# Altium integrated library Linear Technology Power Management PMIC Multifunction.IntLib: 360 symbols (part 14 of 42)
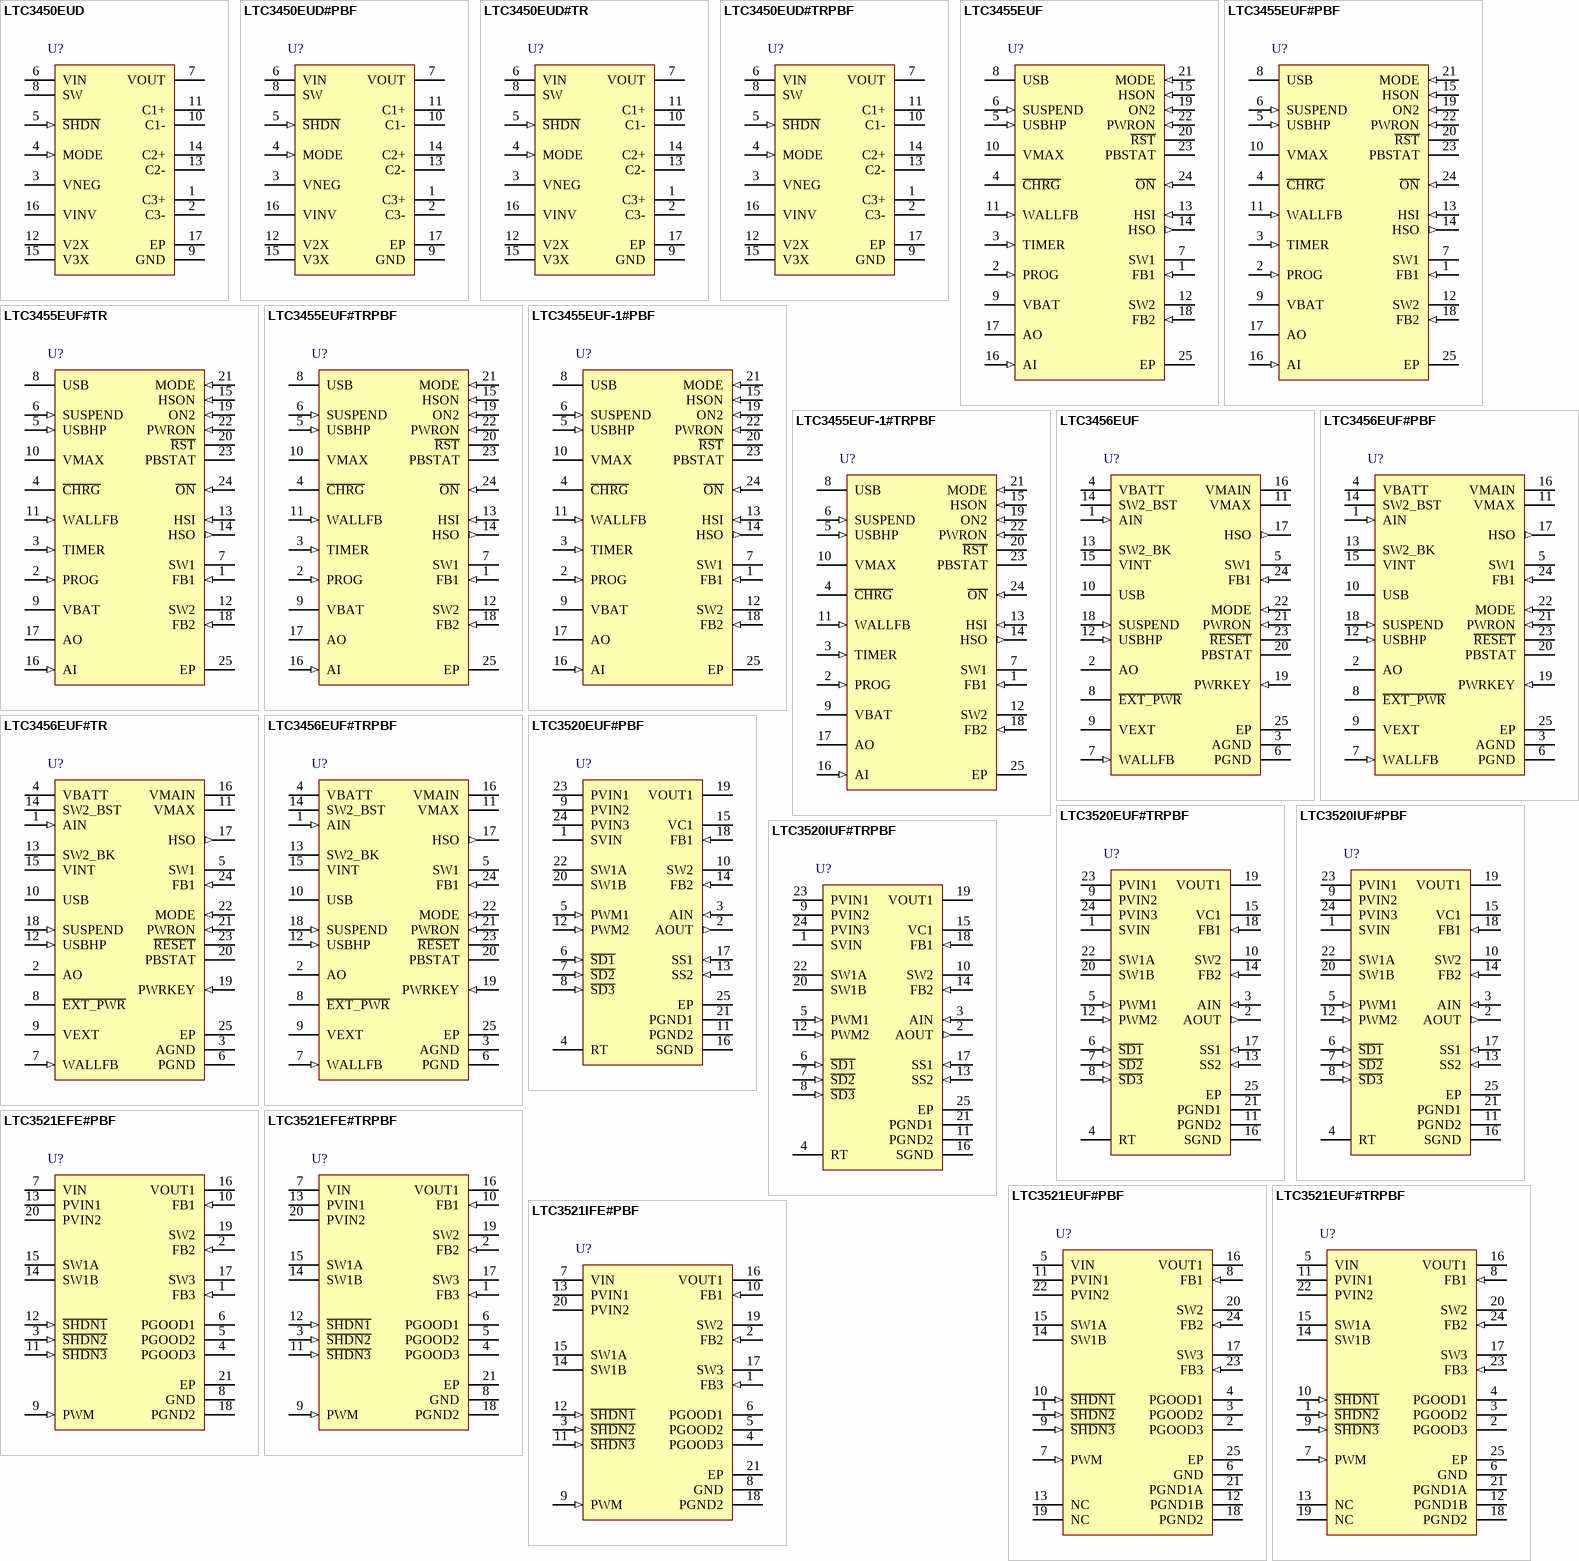
[diagram p31: symbols LTC3450EUD to LTC3521IFE#PBF]

## LTC3455EUF#PBF
designator U?
Dual DC/DC Converter with USB Power Manager and Li-Ion Battery Charger, 4.3 to 5.5 V Vin, 24-pin QFN (UF-24), -40 to 85 degC, Pb-Free; Manufacturer: Linear Technology; PartNumber: LTC3455EUF#PBF; Number of Cells: 1; Number of Outputs: 2; Vin Max(V): 5.5; Vin Min(V): 4.3; DatasheetVersion: Rev. C; PackageVersion: Rev. B, 02/2012; PackageReference: UF24; PackageDescription: 24-Pin Plastic QFN, Body 4 x 4 mm, Pitch 0.5 mm; Supplier 1: Digi-Key; Supplier Part Number 1: LTC3455EUF#PBF-ND; Supplier 2: Farnell; Supplier Part Number 2: 1273944; Supplier 3: Newark; Supplier Part Number 3: 56M7851; RoHS: TRUE; Mounting Technology: Surface Mount; Code_JEDEC: MO-220; ComponentLink1Description: Manufacturer URL; ComponentLink1URL: http://www.linear.com/; ComponentLink2Description: Datasheet; ComponentLink2URL: http://cds.linear.com/docs/en/datasheet/3455fc.pdf; ComponentLink3Description: Package Specification; ComponentLink3URL: http://cds.linear.com/docs/en/packaging/%28UF24%29%20QFN%2005-08-1697%20Rev%20B.pdf
footprint LT-UF-24_N (QFN, 24-Leads, Body 4.1x4.1mm, Pitch 0.5mm, Thermal Pad 2.45x2.45mm, IPC Medium Density)
footprint LT-UF-24_L (QFN, 24-Leads, Body 4.1x4.1mm, Pitch 0.5mm, Thermal Pad 2.45x2.45mm, IPC High Density)
footprint LT-UF-24_M (QFN, 24-Leads, Body 4.1x4.1mm, Pitch 0.5mm, Thermal Pad 2.45x2.45mm, IPC Low Density)
pins: 1 FB1 (in) "Feedback Pin for Switcher 1. Set the output voltage by connecting feedback resistors to this pin.", 2 PROG (in) "Charge Current Program and Charge Current Monitor Pin. Connect a resistor, RPROG, from this pin to ground to program battery charge current. IBAT = 1000 • 1.23V / RPROG. In all modes the voltage on the PROG pin can be use(See Datasheet)", 3 TIMER (in) "Timer Capacitor Pin. Connect a capacitor, CTIMER, between this pin and ground to set the charge cycle termination time. The timer starts when USB or wall  power is ?rst present. The timer period is: TTIMER (hours) = CTIME(See Datasheet)", 4 ~{CHRG} (hiz) "Open-Drain Charge Status Pin. This pin is pulled low with an internal N-channel MOSFET whenever the battery charger is enabled, and is forced into a high impedance state whenever it is disabled.", 5 USBHP (in) "USB High Power Mode Pin. This pin is used to select the appropriate USB current limit (either 500mA or 100mA). Pull high to select 500mA (high power mode); low to select 100mA (low power mode).", 6 SUSPEND (in) "USB Suspend Pin. When this pin is pulled high, the internal USB power controller is disabled and the USB pin current reduces to less than 20uA.", 7 SW1 (power) "Switch Pin for Switcher 1. Minimize the length of the metal trace connected to this pin. Place the inductor for Switcher 1 as close to this pin as possible.", 8 USB (power) "USB Supply Pin. Input current into this pin is limited to either 100mA or 500mA based on the state of the USBHP pin. The charger and Switcher 1 will remain alive whenever USB power is present (when USB pin is above 3.9V and (See Datasheet)", 9 VBAT (power) "Battery Input Pin. Bypass this pin with a capacitor as close to the device as possible.", 10 VMAX (power) "Max Voltage Pin. This pin is used to power the two internal step-down DC/DC converters and  is provided externally to power other devices (i.e. LDOs or Switchers for LCD bias, white LED backlight drive, etc). When the (See Datasheet)", 11 WALLFB (in) "Wall Power Detection Pin. This pin is the input to a comparator used to signal the presence of a 5V wall adapter. A resistor divider taken from the wall adapter input is connected to this pin to tell the LTC3455/LTC3455-1  (See Datasheet)", 12 SW2 (power) "Switch Pin for Switcher 2. Minimize the length of the metal trace connected to this pin. Place the inductor for Switcher 2 as close to this pin as possible.", 13 HSI (in) "Hot Swap Input Pin. This pin is connected to the HSO pin through a current-limited PMOS switch.", 14 HSO (out) "Hot Swap Output Pin. This output is used for memory cards or other devices that would appear as a short if they were hot-plugged directly to one of the outputs (typically the 3.3V output). The current out of this pin is (See Datasheet)", 15 HSON (in) "Hot Swap Enable Pin. This pin turns on the PMOS that connects the HSI and HSO pins.", 16 AI (in) "Gain Block Input Pin. This pin is the inverting input to an ampli?er that can be used as a low-battery detector or as an LDO with the addition of an external  PNP or PMOS. The non-inverting input of the gain block i(See Datasheet)", 17 AO (oc) "Gain Block Output Pin. This pin is an open-drain output, and is pulled low when the AI pin is less than 800mV. This output can be used as a low-battery detector, or as an LDO with the addition of an external PNP or PMOS. (See Datasheet)", 18 FB2 (in) "Feedback Pin for Switcher 2. Set the output voltage by connecting feedback resistors to this pin.", 19 ON2 (in) "Enable Pin for Switcher 2. This pin turns on Switcher 2 only if O\N\ is low or PWRON is high. Switcher 2 cannot be turned on by itself.", 20 ~{RST} (oc) "Reset Pin. This pin is an open-drain output that provides a 200ms reset signal during power-up to initialize a microcontroller.", 21 MODE (in) "Burst Mode Enable Pin. Tie this pin high to allow Burst Mode operation for the LTC3455/LTC3455-1. Burst Mode operation will provide superior ef?ciency when both outputs are operating with very low output currents. Tie thi(See Datasheet)", 22 PWRON (in) "Power-On Pin. Pull this pin high to turn on the LTC3455/LTC3455-1. This pin is typically used in conjunction with the O\N\ and PBSTAT pins, and a momentary-on switch. Tie PWRON to ground if not used.", 23 PBSTAT (oc) "Push-Button Status Pin. This pin is an open drain output that indicates the state of the O\N\ pin (which is usually connected to a momentary-on push-button) to the microcontroller. This pin follows the state of the O\N\ pin (See Datasheet)", 24 ~{ON} (in) "O\N\ Pin. Pull this pin to ground to turn on the LTC3455/LTC3455-1. This pin is typically used with a momentary-on push-button switch to turn on the LTC3455/LTC3455-1. This pin would be held low until the PWRON pin is pulled (See Datasheet)", 25 EP (power) "Ground Pin. The exposed backside pad is the only ground pin for the LTC3455/LTC3455-1 and must be soldered to the PC board ground plane for the device to operate properly."

## LTC3455EUF#TR
designator U?
Dual DC/DC Converter with USB Power Manager and Li-Ion Battery Charger, 4.3 to 5.5 V Vin, 24-pin QFN (UF-24), -40 to 85 degC, Tape and Reel; Manufacturer: Linear Technology; PartNumber: LTC3455EUF#TR; Number of Cells: 1; Number of Outputs: 2; Vin Max(V): 5.5; Vin Min(V): 4.3; DatasheetVersion: Rev. C; PackageVersion: Rev. B, 02/2012; PackageReference: UF24; PackageDescription: 24-Pin Plastic QFN, Body 4 x 4 mm, Pitch 0.5 mm; Supplier 1: Digi-Key; Supplier Part Number 1: LTC3455EUF#TR-ND; Packing: Tape and Reel; RoHS: FALSE; Mounting Technology: Surface Mount; Code_JEDEC: MO-220; ComponentLink1Description: Manufacturer URL; ComponentLink1URL: http://www.linear.com/; ComponentLink2Description: Datasheet; ComponentLink2URL: http://cds.linear.com/docs/en/datasheet/3455fc.pdf; ComponentLink3Description: Package Specification; ComponentLink3URL: http://cds.linear.com/docs/en/packaging/%28UF24%29%20QFN%2005-08-1697%20Rev%20B.pdf
footprint LT-UF-24_N (QFN, 24-Leads, Body 4.1x4.1mm, Pitch 0.5mm, Thermal Pad 2.45x2.45mm, IPC Medium Density)
footprint LT-UF-24_L (QFN, 24-Leads, Body 4.1x4.1mm, Pitch 0.5mm, Thermal Pad 2.45x2.45mm, IPC High Density)
footprint LT-UF-24_M (QFN, 24-Leads, Body 4.1x4.1mm, Pitch 0.5mm, Thermal Pad 2.45x2.45mm, IPC Low Density)
pins: 1 FB1 (in) "Feedback Pin for Switcher 1. Set the output voltage by connecting feedback resistors to this pin.", 2 PROG (in) "Charge Current Program and Charge Current Monitor Pin. Connect a resistor, RPROG, from this pin to ground to program battery charge current. IBAT = 1000 • 1.23V / RPROG. In all modes the voltage on the PROG pin can be use(See Datasheet)", 3 TIMER (in) "Timer Capacitor Pin. Connect a capacitor, CTIMER, between this pin and ground to set the charge cycle termination time. The timer starts when USB or wall  power is ?rst present. The timer period is: TTIMER (hours) = CTIME(See Datasheet)", 4 ~{CHRG} (hiz) "Open-Drain Charge Status Pin. This pin is pulled low with an internal N-channel MOSFET whenever the battery charger is enabled, and is forced into a high impedance state whenever it is disabled.", 5 USBHP (in) "USB High Power Mode Pin. This pin is used to select the appropriate USB current limit (either 500mA or 100mA). Pull high to select 500mA (high power mode); low to select 100mA (low power mode).", 6 SUSPEND (in) "USB Suspend Pin. When this pin is pulled high, the internal USB power controller is disabled and the USB pin current reduces to less than 20uA.", 7 SW1 (power) "Switch Pin for Switcher 1. Minimize the length of the metal trace connected to this pin. Place the inductor for Switcher 1 as close to this pin as possible.", 8 USB (power) "USB Supply Pin. Input current into this pin is limited to either 100mA or 500mA based on the state of the USBHP pin. The charger and Switcher 1 will remain alive whenever USB power is present (when USB pin is above 3.9V and (See Datasheet)", 9 VBAT (power) "Battery Input Pin. Bypass this pin with a capacitor as close to the device as possible.", 10 VMAX (power) "Max Voltage Pin. This pin is used to power the two internal step-down DC/DC converters and  is provided externally to power other devices (i.e. LDOs or Switchers for LCD bias, white LED backlight drive, etc). When the (See Datasheet)", 11 WALLFB (in) "Wall Power Detection Pin. This pin is the input to a comparator used to signal the presence of a 5V wall adapter. A resistor divider taken from the wall adapter input is connected to this pin to tell the LTC3455/LTC3455-1  (See Datasheet)", 12 SW2 (power) "Switch Pin for Switcher 2. Minimize the length of the metal trace connected to this pin. Place the inductor for Switcher 2 as close to this pin as possible.", 13 HSI (in) "Hot Swap Input Pin. This pin is connected to the HSO pin through a current-limited PMOS switch.", 14 HSO (out) "Hot Swap Output Pin. This output is used for memory cards or other devices that would appear as a short if they were hot-plugged directly to one of the outputs (typically the 3.3V output). The current out of this pin is (See Datasheet)", 15 HSON (in) "Hot Swap Enable Pin. This pin turns on the PMOS that connects the HSI and HSO pins.", 16 AI (in) "Gain Block Input Pin. This pin is the inverting input to an ampli?er that can be used as a low-battery detector or as an LDO with the addition of an external  PNP or PMOS. The non-inverting input of the gain block i(See Datasheet)", 17 AO (oc) "Gain Block Output Pin. This pin is an open-drain output, and is pulled low when the AI pin is less than 800mV. This output can be used as a low-battery detector, or as an LDO with the addition of an external PNP or PMOS. (See Datasheet)", 18 FB2 (in) "Feedback Pin for Switcher 2. Set the output voltage by connecting feedback resistors to this pin.", 19 ON2 (in) "Enable Pin for Switcher 2. This pin turns on Switcher 2 only if O\N\ is low or PWRON is high. Switcher 2 cannot be turned on by itself.", 20 ~{RST} (oc) "Reset Pin. This pin is an open-drain output that provides a 200ms reset signal during power-up to initialize a microcontroller.", 21 MODE (in) "Burst Mode Enable Pin. Tie this pin high to allow Burst Mode operation for the LTC3455/LTC3455-1. Burst Mode operation will provide superior ef?ciency when both outputs are operating with very low output currents. Tie thi(See Datasheet)", 22 PWRON (in) "Power-On Pin. Pull this pin high to turn on the LTC3455/LTC3455-1. This pin is typically used in conjunction with the O\N\ and PBSTAT pins, and a momentary-on switch. Tie PWRON to ground if not used.", 23 PBSTAT (oc) "Push-Button Status Pin. This pin is an open drain output that indicates the state of the O\N\ pin (which is usually connected to a momentary-on push-button) to the microcontroller. This pin follows the state of the O\N\ pin (See Datasheet)", 24 ~{ON} (in) "O\N\ Pin. Pull this pin to ground to turn on the LTC3455/LTC3455-1. This pin is typically used with a momentary-on push-button switch to turn on the LTC3455/LTC3455-1. This pin would be held low until the PWRON pin is pulled (See Datasheet)", 25 EP (power) "Ground Pin. The exposed backside pad is the only ground pin for the LTC3455/LTC3455-1 and must be soldered to the PC board ground plane for the device to operate properly."

## LTC3455EUF#TRPBF
designator U?
Dual DC/DC Converter with USB Power Manager and Li-Ion Battery Charger, 4.3 to 5.5 V Vin, 24-pin QFN (UF-24), -40 to 85 degC, Pb-Free, Tape and Reel; Manufacturer: Linear Technology; PartNumber: LTC3455EUF#TRPBF; Number of Cells: 1; Number of Outputs: 2; Vin Max(V): 5.5; Vin Min(V): 4.3; DatasheetVersion: Rev. C; PackageVersion: Rev. B, 02/2012; PackageReference: UF24; PackageDescription: 24-Pin Plastic QFN, Body 4 x 4 mm, Pitch 0.5 mm; Supplier 1: Digi-Key; Supplier Part Number 1: LTC3455EUF#TRPBF-ND; Packing: Tape and Reel; RoHS: TRUE; Mounting Technology: Surface Mount; Code_JEDEC: MO-220; ComponentLink1Description: Manufacturer URL; ComponentLink1URL: http://www.linear.com/; ComponentLink2Description: Datasheet; ComponentLink2URL: http://cds.linear.com/docs/en/datasheet/3455fc.pdf; ComponentLink3Description: Package Specification; ComponentLink3URL: http://cds.linear.com/docs/en/packaging/%28UF24%29%20QFN%2005-08-1697%20Rev%20B.pdf
footprint LT-UF-24_N (QFN, 24-Leads, Body 4.1x4.1mm, Pitch 0.5mm, Thermal Pad 2.45x2.45mm, IPC Medium Density)
footprint LT-UF-24_L (QFN, 24-Leads, Body 4.1x4.1mm, Pitch 0.5mm, Thermal Pad 2.45x2.45mm, IPC High Density)
footprint LT-UF-24_M (QFN, 24-Leads, Body 4.1x4.1mm, Pitch 0.5mm, Thermal Pad 2.45x2.45mm, IPC Low Density)
pins: 1 FB1 (in) "Feedback Pin for Switcher 1. Set the output voltage by connecting feedback resistors to this pin.", 2 PROG (in) "Charge Current Program and Charge Current Monitor Pin. Connect a resistor, RPROG, from this pin to ground to program battery charge current. IBAT = 1000 • 1.23V / RPROG. In all modes the voltage on the PROG pin can be use(See Datasheet)", 3 TIMER (in) "Timer Capacitor Pin. Connect a capacitor, CTIMER, between this pin and ground to set the charge cycle termination time. The timer starts when USB or wall  power is ?rst present. The timer period is: TTIMER (hours) = CTIME(See Datasheet)", 4 ~{CHRG} (hiz) "Open-Drain Charge Status Pin. This pin is pulled low with an internal N-channel MOSFET whenever the battery charger is enabled, and is forced into a high impedance state whenever it is disabled.", 5 USBHP (in) "USB High Power Mode Pin. This pin is used to select the appropriate USB current limit (either 500mA or 100mA). Pull high to select 500mA (high power mode); low to select 100mA (low power mode).", 6 SUSPEND (in) "USB Suspend Pin. When this pin is pulled high, the internal USB power controller is disabled and the USB pin current reduces to less than 20uA.", 7 SW1 (power) "Switch Pin for Switcher 1. Minimize the length of the metal trace connected to this pin. Place the inductor for Switcher 1 as close to this pin as possible.", 8 USB (power) "USB Supply Pin. Input current into this pin is limited to either 100mA or 500mA based on the state of the USBHP pin. The charger and Switcher 1 will remain alive whenever USB power is present (when USB pin is above 3.9V and (See Datasheet)", 9 VBAT (power) "Battery Input Pin. Bypass this pin with a capacitor as close to the device as possible.", 10 VMAX (power) "Max Voltage Pin. This pin is used to power the two internal step-down DC/DC converters and  is provided externally to power other devices (i.e. LDOs or Switchers for LCD bias, white LED backlight drive, etc). When the (See Datasheet)", 11 WALLFB (in) "Wall Power Detection Pin. This pin is the input to a comparator used to signal the presence of a 5V wall adapter. A resistor divider taken from the wall adapter input is connected to this pin to tell the LTC3455/LTC3455-1  (See Datasheet)", 12 SW2 (power) "Switch Pin for Switcher 2. Minimize the length of the metal trace connected to this pin. Place the inductor for Switcher 2 as close to this pin as possible.", 13 HSI (in) "Hot Swap Input Pin. This pin is connected to the HSO pin through a current-limited PMOS switch.", 14 HSO (out) "Hot Swap Output Pin. This output is used for memory cards or other devices that would appear as a short if they were hot-plugged directly to one of the outputs (typically the 3.3V output). The current out of this pin is (See Datasheet)", 15 HSON (in) "Hot Swap Enable Pin. This pin turns on the PMOS that connects the HSI and HSO pins.", 16 AI (in) "Gain Block Input Pin. This pin is the inverting input to an ampli?er that can be used as a low-battery detector or as an LDO with the addition of an external  PNP or PMOS. The non-inverting input of the gain block i(See Datasheet)", 17 AO (oc) "Gain Block Output Pin. This pin is an open-drain output, and is pulled low when the AI pin is less than 800mV. This output can be used as a low-battery detector, or as an LDO with the addition of an external PNP or PMOS. (See Datasheet)", 18 FB2 (in) "Feedback Pin for Switcher 2. Set the output voltage by connecting feedback resistors to this pin.", 19 ON2 (in) "Enable Pin for Switcher 2. This pin turns on Switcher 2 only if O\N\ is low or PWRON is high. Switcher 2 cannot be turned on by itself.", 20 ~{RST} (oc) "Reset Pin. This pin is an open-drain output that provides a 200ms reset signal during power-up to initialize a microcontroller.", 21 MODE (in) "Burst Mode Enable Pin. Tie this pin high to allow Burst Mode operation for the LTC3455/LTC3455-1. Burst Mode operation will provide superior ef?ciency when both outputs are operating with very low output currents. Tie thi(See Datasheet)", 22 PWRON (in) "Power-On Pin. Pull this pin high to turn on the LTC3455/LTC3455-1. This pin is typically used in conjunction with the O\N\ and PBSTAT pins, and a momentary-on switch. Tie PWRON to ground if not used.", 23 PBSTAT (oc) "Push-Button Status Pin. This pin is an open drain output that indicates the state of the O\N\ pin (which is usually connected to a momentary-on push-button) to the microcontroller. This pin follows the state of the O\N\ pin (See Datasheet)", 24 ~{ON} (in) "O\N\ Pin. Pull this pin to ground to turn on the LTC3455/LTC3455-1. This pin is typically used with a momentary-on push-button switch to turn on the LTC3455/LTC3455-1. This pin would be held low until the PWRON pin is pulled (See Datasheet)", 25 EP (power) "Ground Pin. The exposed backside pad is the only ground pin for the LTC3455/LTC3455-1 and must be soldered to the PC board ground plane for the device to operate properly."

## LTC3455EUF-1#PBF
designator U?
Dual DC/DC Converter with USB Power Manager and Li-Ion Battery Charger, 4.3 to 5.5 V Vin, 24-pin QFN (UF-24), -40 to 85 degC, Pb-Free; Manufacturer: Linear Technology; PartNumber: LTC3455EUF-1#PBF; Number of Cells: 1; Number of Outputs: 2; Vin Max(V): 5.5; Vin Min(V): 4.3; DatasheetVersion: Rev. C; PackageVersion: Rev. B, 02/2012; PackageReference: UF24; PackageDescription: 24-Pin Plastic QFN, Body 4 x 4 mm, Pitch 0.5 mm; Supplier 1: Digi-Key; Supplier Part Number 1: LTC3455EUF-1#PBF-ND; RoHS: TRUE; Mounting Technology: Surface Mount; Code_JEDEC: MO-220; ComponentLink1Description: Manufacturer URL; ComponentLink1URL: http://www.linear.com/; ComponentLink2Description: Datasheet; ComponentLink2URL: http://cds.linear.com/docs/en/datasheet/3455fc.pdf; ComponentLink3Description: Package Specification; ComponentLink3URL: http://cds.linear.com/docs/en/packaging/%28UF24%29%20QFN%2005-08-1697%20Rev%20B.pdf
footprint LT-UF-24_N (QFN, 24-Leads, Body 4.1x4.1mm, Pitch 0.5mm, Thermal Pad 2.45x2.45mm, IPC Medium Density)
footprint LT-UF-24_L (QFN, 24-Leads, Body 4.1x4.1mm, Pitch 0.5mm, Thermal Pad 2.45x2.45mm, IPC High Density)
footprint LT-UF-24_M (QFN, 24-Leads, Body 4.1x4.1mm, Pitch 0.5mm, Thermal Pad 2.45x2.45mm, IPC Low Density)
pins: 1 FB1 (in) "Feedback Pin for Switcher 1. Set the output voltage by connecting feedback resistors to this pin.", 2 PROG (in) "Charge Current Program and Charge Current Monitor Pin. Connect a resistor, RPROG, from this pin to ground to program battery charge current. IBAT = 1000 • 1.23V / RPROG. In all modes the voltage on the PROG pin can be use(See Datasheet)", 3 TIMER (in) "Timer Capacitor Pin. Connect a capacitor, CTIMER, between this pin and ground to set the charge cycle termination time. The timer starts when USB or wall  power is ?rst present. The timer period is: TTIMER (hours) = CTIME(See Datasheet)", 4 ~{CHRG} (hiz) "Open-Drain Charge Status Pin. This pin is pulled low with an internal N-channel MOSFET whenever the battery charger is enabled, and is forced into a high impedance state whenever it is disabled.", 5 USBHP (in) "USB High Power Mode Pin. This pin is used to select the appropriate USB current limit (either 500mA or 100mA). Pull high to select 500mA (high power mode); low to select 100mA (low power mode).", 6 SUSPEND (in) "USB Suspend Pin. When this pin is pulled high, the internal USB power controller is disabled and the USB pin current reduces to less than 20uA.", 7 SW1 (power) "Switch Pin for Switcher 1. Minimize the length of the metal trace connected to this pin. Place the inductor for Switcher 1 as close to this pin as possible.", 8 USB (power) "USB Supply Pin. Input current into this pin is limited to either 100mA or 500mA based on the state of the USBHP pin. The charger and Switcher 1 will remain alive whenever USB power is present (when USB pin is above 3.9V and (See Datasheet)", 9 VBAT (power) "Battery Input Pin. Bypass this pin with a capacitor as close to the device as possible.", 10 VMAX (power) "Max Voltage Pin. This pin is used to power the two internal step-down DC/DC converters and  is provided externally to power other devices (i.e. LDOs or Switchers for LCD bias, white LED backlight drive, etc). When the (See Datasheet)", 11 WALLFB (in) "Wall Power Detection Pin. This pin is the input to a comparator used to signal the presence of a 5V wall adapter. A resistor divider taken from the wall adapter input is connected to this pin to tell the LTC3455/LTC3455-1  (See Datasheet)", 12 SW2 (power) "Switch Pin for Switcher 2. Minimize the length of the metal trace connected to this pin. Place the inductor for Switcher 2 as close to this pin as possible.", 13 HSI (in) "Hot Swap Input Pin. This pin is connected to the HSO pin through a current-limited PMOS switch.", 14 HSO (out) "Hot Swap Output Pin. This output is used for memory cards or other devices that would appear as a short if they were hot-plugged directly to one of the outputs (typically the 3.3V output). The current out of this pin is (See Datasheet)", 15 HSON (in) "Hot Swap Enable Pin. This pin turns on the PMOS that connects the HSI and HSO pins.", 16 AI (in) "Gain Block Input Pin. This pin is the inverting input to an ampli?er that can be used as a low-battery detector or as an LDO with the addition of an external  PNP or PMOS. The non-inverting input of the gain block i(See Datasheet)", 17 AO (oc) "Gain Block Output Pin. This pin is an open-drain output, and is pulled low when the AI pin is less than 800mV. This output can be used as a low-battery detector, or as an LDO with the addition of an external PNP or PMOS. (See Datasheet)", 18 FB2 (in) "Feedback Pin for Switcher 2. Set the output voltage by connecting feedback resistors to this pin.", 19 ON2 (in) "Enable Pin for Switcher 2. This pin turns on Switcher 2 only if O\N\ is low or PWRON is high. Switcher 2 cannot be turned on by itself.", 20 ~{RST} (oc) "Reset Pin. This pin is an open-drain output that provides a 200ms reset signal during power-up to initialize a microcontroller.", 21 MODE (in) "Burst Mode Enable Pin. Tie this pin high to allow Burst Mode operation for the LTC3455/LTC3455-1. Burst Mode operation will provide superior ef?ciency when both outputs are operating with very low output currents. Tie thi(See Datasheet)", 22 PWRON (in) "Power-On Pin. Pull this pin high to turn on the LTC3455/LTC3455-1. This pin is typically used in conjunction with the O\N\ and PBSTAT pins, and a momentary-on switch. Tie PWRON to ground if not used.", 23 PBSTAT (oc) "Push-Button Status Pin. This pin is an open drain output that indicates the state of the O\N\ pin (which is usually connected to a momentary-on push-button) to the microcontroller. This pin follows the state of the O\N\ pin (See Datasheet)", 24 ~{ON} (in) "O\N\ Pin. Pull this pin to ground to turn on the LTC3455/LTC3455-1. This pin is typically used with a momentary-on push-button switch to turn on the LTC3455/LTC3455-1. This pin would be held low until the PWRON pin is pulled (See Datasheet)", 25 EP (power) "Ground Pin. The exposed backside pad is the only ground pin for the LTC3455/LTC3455-1 and must be soldered to the PC board ground plane for the device to operate properly."

## LTC3455EUF-1#TRPBF
designator U?
Dual DC/DC Converter with USB Power Manager and Li-Ion Battery Charger, 4.3 to 5.5 V Vin, 24-pin QFN (UF-24), -40 to 85 degC, Pb-Free, Tape and Reel; Manufacturer: Linear Technology; PartNumber: LTC3455EUF-1#TRPBF; Number of Cells: 1; Number of Outputs: 2; Vin Max(V): 5.5; Vin Min(V): 4.3; DatasheetVersion: Rev. C; PackageVersion: Rev. B, 02/2012; PackageReference: UF24; PackageDescription: 24-Pin Plastic QFN, Body 4 x 4 mm, Pitch 0.5 mm; Supplier 1: Digi-Key; Supplier Part Number 1: LTC3455EUF-1#TRPBF-ND; Supplier 2: Newark; Supplier Part Number 2: 02P9935; Packing: Tape and Reel; RoHS: TRUE; Mounting Technology: Surface Mount; Code_JEDEC: MO-220; ComponentLink1Description: Manufacturer URL; ComponentLink1URL: http://www.linear.com/; ComponentLink2Description: Datasheet; ComponentLink2URL: http://cds.linear.com/docs/en/datasheet/3455fc.pdf; ComponentLink3Description: Package Specification; ComponentLink3URL: http://cds.linear.com/docs/en/packaging/%28UF24%29%20QFN%2005-08-1697%20Rev%20B.pdf
footprint LT-UF-24_N (QFN, 24-Leads, Body 4.1x4.1mm, Pitch 0.5mm, Thermal Pad 2.45x2.45mm, IPC Medium Density)
footprint LT-UF-24_L (QFN, 24-Leads, Body 4.1x4.1mm, Pitch 0.5mm, Thermal Pad 2.45x2.45mm, IPC High Density)
footprint LT-UF-24_M (QFN, 24-Leads, Body 4.1x4.1mm, Pitch 0.5mm, Thermal Pad 2.45x2.45mm, IPC Low Density)
pins: 1 FB1 (in) "Feedback Pin for Switcher 1. Set the output voltage by connecting feedback resistors to this pin.", 2 PROG (in) "Charge Current Program and Charge Current Monitor Pin. Connect a resistor, RPROG, from this pin to ground to program battery charge current. IBAT = 1000 • 1.23V / RPROG. In all modes the voltage on the PROG pin can be use(See Datasheet)", 3 TIMER (in) "Timer Capacitor Pin. Connect a capacitor, CTIMER, between this pin and ground to set the charge cycle termination time. The timer starts when USB or wall  power is ?rst present. The timer period is: TTIMER (hours) = CTIME(See Datasheet)", 4 ~{CHRG} (hiz) "Open-Drain Charge Status Pin. This pin is pulled low with an internal N-channel MOSFET whenever the battery charger is enabled, and is forced into a high impedance state whenever it is disabled.", 5 USBHP (in) "USB High Power Mode Pin. This pin is used to select the appropriate USB current limit (either 500mA or 100mA). Pull high to select 500mA (high power mode); low to select 100mA (low power mode).", 6 SUSPEND (in) "USB Suspend Pin. When this pin is pulled high, the internal USB power controller is disabled and the USB pin current reduces to less than 20uA.", 7 SW1 (power) "Switch Pin for Switcher 1. Minimize the length of the metal trace connected to this pin. Place the inductor for Switcher 1 as close to this pin as possible.", 8 USB (power) "USB Supply Pin. Input current into this pin is limited to either 100mA or 500mA based on the state of the USBHP pin. The charger and Switcher 1 will remain alive whenever USB power is present (when USB pin is above 3.9V and (See Datasheet)", 9 VBAT (power) "Battery Input Pin. Bypass this pin with a capacitor as close to the device as possible.", 10 VMAX (power) "Max Voltage Pin. This pin is used to power the two internal step-down DC/DC converters and  is provided externally to power other devices (i.e. LDOs or Switchers for LCD bias, white LED backlight drive, etc). When the (See Datasheet)", 11 WALLFB (in) "Wall Power Detection Pin. This pin is the input to a comparator used to signal the presence of a 5V wall adapter. A resistor divider taken from the wall adapter input is connected to this pin to tell the LTC3455/LTC3455-1  (See Datasheet)", 12 SW2 (power) "Switch Pin for Switcher 2. Minimize the length of the metal trace connected to this pin. Place the inductor for Switcher 2 as close to this pin as possible.", 13 HSI (in) "Hot Swap Input Pin. This pin is connected to the HSO pin through a current-limited PMOS switch.", 14 HSO (out) "Hot Swap Output Pin. This output is used for memory cards or other devices that would appear as a short if they were hot-plugged directly to one of the outputs (typically the 3.3V output). The current out of this pin is (See Datasheet)", 15 HSON (in) "Hot Swap Enable Pin. This pin turns on the PMOS that connects the HSI and HSO pins.", 16 AI (in) "Gain Block Input Pin. This pin is the inverting input to an ampli?er that can be used as a low-battery detector or as an LDO with the addition of an external  PNP or PMOS. The non-inverting input of the gain block i(See Datasheet)", 17 AO (oc) "Gain Block Output Pin. This pin is an open-drain output, and is pulled low when the AI pin is less than 800mV. This output can be used as a low-battery detector, or as an LDO with the addition of an external PNP or PMOS. (See Datasheet)", 18 FB2 (in) "Feedback Pin for Switcher 2. Set the output voltage by connecting feedback resistors to this pin.", 19 ON2 (in) "Enable Pin for Switcher 2. This pin turns on Switcher 2 only if O\N\ is low or PWRON is high. Switcher 2 cannot be turned on by itself.", 20 ~{RST} (oc) "Reset Pin. This pin is an open-drain output that provides a 200ms reset signal during power-up to initialize a microcontroller.", 21 MODE (in) "Burst Mode Enable Pin. Tie this pin high to allow Burst Mode operation for the LTC3455/LTC3455-1. Burst Mode operation will provide superior ef?ciency when both outputs are operating with very low output currents. Tie thi(See Datasheet)", 22 PWRON (in) "Power-On Pin. Pull this pin high to turn on the LTC3455/LTC3455-1. This pin is typically used in conjunction with the O\N\ and PBSTAT pins, and a momentary-on switch. Tie PWRON to ground if not used.", 23 PBSTAT (oc) "Push-Button Status Pin. This pin is an open drain output that indicates the state of the O\N\ pin (which is usually connected to a momentary-on push-button) to the microcontroller. This pin follows the state of the O\N\ pin (See Datasheet)", 24 ~{ON} (in) "O\N\ Pin. Pull this pin to ground to turn on the LTC3455/LTC3455-1. This pin is typically used with a momentary-on push-button switch to turn on the LTC3455/LTC3455-1. This pin would be held low until the PWRON pin is pulled (See Datasheet)", 25 EP (power) "Ground Pin. The exposed backside pad is the only ground pin for the LTC3455/LTC3455-1 and must be soldered to the PC board ground plane for the device to operate properly."

## LTC3456EUF
designator U?
2-Cell, Multi-Output DC/DC Converter with USB Power Manager, 1.8 to 5.5 V Vin, 24-pin QFN (UF-24), -40 to 85 degC; Manufacturer: Linear Technology; PartNumber: LTC3456EUF; Number of Outputs: 2; Vin Max(V): 5.5; Vin Min(V): 1.8; DatasheetVersion: Rev. A; PackageVersion: Rev. B, 02/2012; PackageReference: UF24; PackageDescription: 24-Pin Plastic QFN, Body 4 x 4 mm, Pitch 0.5 mm; RoHS: FALSE; Mounting Technology: Surface Mount; Code_JEDEC: MO-220; ComponentLink1Description: Manufacturer URL; ComponentLink1URL: http://www.linear.com/; ComponentLink2Description: Datasheet; ComponentLink2URL: http://cds.linear.com/docs/en/datasheet/3456fa.pdf; ComponentLink3Description: Package Specification; ComponentLink3URL: http://cds.linear.com/docs/en/packaging/%28UF24%29%20QFN%2005-08-1697%20Rev%20B.pdf
footprint LT-UF-24_N (QFN, 24-Leads, Body 4.1x4.1mm, Pitch 0.5mm, Thermal Pad 2.45x2.45mm, IPC Medium Density)
footprint LT-UF-24_L (QFN, 24-Leads, Body 4.1x4.1mm, Pitch 0.5mm, Thermal Pad 2.45x2.45mm, IPC High Density)
footprint LT-UF-24_M (QFN, 24-Leads, Body 4.1x4.1mm, Pitch 0.5mm, Thermal Pad 2.45x2.45mm, IPC Low Density)
pins: 1 AIN (in) "Low-Battery Detector Input Pin. The detector compares the voltage on this pin to an 800mV reference. Connect the resistor divider tap to this pin to set the lowbattery trip point.", 2 AO (oc) "Open-Drain Digital Output. This open-drain logic output is pulled to GND whenever the AIN pin voltage falls lower than 0.8V.", 3 AGND (power) "Analog Ground. All resistor dividers should be connected to this pin.", 4 VBATT (power) "Battery Input Supply. The input voltage at this pin can range from 1.8V to 3.2V. Must be locally bypassed with a 1uF (or greater) X5R or X7R type ceramic capacitor.", 5 SW1 (power) "Switch Pin for Core Regulator. Connect the inductor between SW1 and the output capacitor. Keep these PCB trace lengths as short and wide as possible to reduce EMI.", 6 PGND (power) "Power Ground. This is the ground pin for all internal drivers and switches. Provide a short PCB path between PGND and PCB system ground.", 7 WALLFB (in) "Wall Feedback Pin. This pin receives the feedback voltage from an external resistor divider across the AC wall adapter input. When the pin voltage is higher than 1.25V, the chip is powered from the VEXT pin and the USB (See Datasheet)", 8 ~{EXT_PWR} (hiz) "External Power Good Pin. This opendrain logic output is pulled to GND whenever the WALLFB pin is pulled higher than 1.25V or the USB pin voltage is greater than 4V and SUSPEND is low. Essentially this pin is pulled low (See Datasheet)", 9 VEXT (power) "External Power Pin. This pin is connected to the USB pin via an internal 0.5ohm (typ) PMOS switch. The AC wall adapter can be connected to this pin through a Schottky diode. An onboard voltage detector prevents the IC from (See Datasheet)", 10 USB (power) "USB Input Supply. Input current into this pin is limited to either 100mA or 500mA based on the state of the USBHP pin. When the USB pin voltage is greater than 4V and SUSPEND is low, and WALLFB is less than 1.25V, USB is (See Datasheet)", 11 VMAX (power) "Maximum Supply Voltage Pin. A special internal PowerPathTM controller monitors the VBATT, VINT, VEXT and USB voltages and passes the highest available supply voltage to the VMAX pin. This pin is used to power some of the (See Datasheet)", 12 USBHP (in) "USB High Power Select Pin. This pin is used to set the USB current limit. Pull high to select 500mA current limit (High Power mode); low to select 100mA current limit (Low Power mode). This pin has a weak pulldown current (See Datasheet)", 13 SW2_BK (power) "Switch Pin for Main Regulator (USB or Wall Powered). Connect the inductor between SW2_BK and the output voltage. Keep these PCB trace lengths as short and wide as possible to reduce EMI.", 14 SW2_BST (power) "Switch Pin for Main Regulator (Battery Powered). Connect the inductor between SW2_BST and VBATT. Keep these PCB trace lengths as short and wide as possible to reduce EMI.", 15 VINT (power) "Internal Supply Voltage Pin. The VINT voltage is regulated to 3.3V. This pin is used to power most of the internal circuitry of the IC. Do not load this output. Connect an output capacitor from this pin to ground.", 16 VMAIN (power) "Main Regulator Output Voltage. An internal 0.4ohm PMOS switch connects this pin to the VINT pin 0.8ms (typ) after the Core voltage comes into regulation. This ensures that VMAIN will always power up after Core output during (See Datasheet)", 17 HSO (out) "Hot Swap Output. An internal 0.8ohm current limited PMOS switch connects this pin to the VINT pin 0.5ms after the core voltage comes into regulation. The nominal voltage at this pin is 3.3V. It is short-circuit protected and (See Datasheet)", 18 SUSPEND (in) "USB Suspend Pin. Pull this pin high to disable all USB functionality. The USB switch connected between USB and VEXT behaves like a back-to-back diode whenever SUSPEND is pulled high. In Suspend mode the device limits the (See Datasheet)", 19 PWRKEY (in) "Power O\N\/OFF Key. Connecting this pin to GND will turn on the IC. This pin is typically used with a momentary-on pushbutton switch to turn on the LTC3456. This pin must be held low until the PWRON pin is pulled high (See Datasheet)", 20 PBSTAT (oc) "Power O\N\/OFF Key Status Pin. This open-drain output pin indicates the state of the PWRKEY pin to the microcontroller. The pin output follows the state of the PWRKEY pin (PBSTAT goes low when PWRKEY is pulled low).", 21 PWRON (in) "Power On Pin. When pulled high this microprocessor controlled pin turns on the IC. This pin has a weak 1uA pull-down current source.", 22 MODE (in) "Burst Mode Select Pin. Tie this pin high to allow automatic Burst Mode operation. Burst Mode operation will provide superior efficiency when any of the outputs are operating with very low output currents. Tie this pin low to (See Datasheet)", 23 ~{RESET} (oc) "Fault Indicator Output Pin. This open-drain output is active both at power-up and power-down. R\E\S\E\T\ is held low at initial power up. When both the Core and Main outputs come into regulation, an internal R\E\S\E\T\ delay (See Datasheet)", 24 FB1 (in) "Feedback Pin for the Core Regulator. The regulator drives the voltage at this pin to 0.8V. Connect the resistor divider tap to this pin. The output voltage of the core regulator can be adjusted from 0.8V to VBATT(MIN).", 25 EP (power) "The Exposed Pad must be soldered to the PCB system ground."

## LTC3456EUF#PBF
designator U?
2-Cell, Multi-Output DC/DC Converter with USB Power Manager, 1.8 to 5.5 V Vin, 24-pin QFN (UF-24), -40 to 85 degC, Pb-Free; Manufacturer: Linear Technology; PartNumber: LTC3456EUF#PBF; Number of Outputs: 2; Vin Max(V): 5.5; Vin Min(V): 1.8; DatasheetVersion: Rev. A; PackageVersion: Rev. B, 02/2012; PackageReference: UF24; PackageDescription: 24-Pin Plastic QFN, Body 4 x 4 mm, Pitch 0.5 mm; Supplier 1: Digi-Key; Supplier Part Number 1: LTC3456EUF#PBF-ND; RoHS: TRUE; Mounting Technology: Surface Mount; Code_JEDEC: MO-220; ComponentLink1Description: Manufacturer URL; ComponentLink1URL: http://www.linear.com/; ComponentLink2Description: Datasheet; ComponentLink2URL: http://cds.linear.com/docs/en/datasheet/3456fa.pdf; ComponentLink3Description: Package Specification; ComponentLink3URL: http://cds.linear.com/docs/en/packaging/%28UF24%29%20QFN%2005-08-1697%20Rev%20B.pdf
footprint LT-UF-24_N (QFN, 24-Leads, Body 4.1x4.1mm, Pitch 0.5mm, Thermal Pad 2.45x2.45mm, IPC Medium Density)
footprint LT-UF-24_L (QFN, 24-Leads, Body 4.1x4.1mm, Pitch 0.5mm, Thermal Pad 2.45x2.45mm, IPC High Density)
footprint LT-UF-24_M (QFN, 24-Leads, Body 4.1x4.1mm, Pitch 0.5mm, Thermal Pad 2.45x2.45mm, IPC Low Density)
pins: 1 AIN (in) "Low-Battery Detector Input Pin. The detector compares the voltage on this pin to an 800mV reference. Connect the resistor divider tap to this pin to set the lowbattery trip point.", 2 AO (oc) "Open-Drain Digital Output. This open-drain logic output is pulled to GND whenever the AIN pin voltage falls lower than 0.8V.", 3 AGND (power) "Analog Ground. All resistor dividers should be connected to this pin.", 4 VBATT (power) "Battery Input Supply. The input voltage at this pin can range from 1.8V to 3.2V. Must be locally bypassed with a 1uF (or greater) X5R or X7R type ceramic capacitor.", 5 SW1 (power) "Switch Pin for Core Regulator. Connect the inductor between SW1 and the output capacitor. Keep these PCB trace lengths as short and wide as possible to reduce EMI.", 6 PGND (power) "Power Ground. This is the ground pin for all internal drivers and switches. Provide a short PCB path between PGND and PCB system ground.", 7 WALLFB (in) "Wall Feedback Pin. This pin receives the feedback voltage from an external resistor divider across the AC wall adapter input. When the pin voltage is higher than 1.25V, the chip is powered from the VEXT pin and the USB (See Datasheet)", 8 ~{EXT_PWR} (hiz) "External Power Good Pin. This opendrain logic output is pulled to GND whenever the WALLFB pin is pulled higher than 1.25V or the USB pin voltage is greater than 4V and SUSPEND is low. Essentially this pin is pulled low (See Datasheet)", 9 VEXT (power) "External Power Pin. This pin is connected to the USB pin via an internal 0.5ohm (typ) PMOS switch. The AC wall adapter can be connected to this pin through a Schottky diode. An onboard voltage detector prevents the IC from (See Datasheet)", 10 USB (power) "USB Input Supply. Input current into this pin is limited to either 100mA or 500mA based on the state of the USBHP pin. When the USB pin voltage is greater than 4V and SUSPEND is low, and WALLFB is less than 1.25V, USB is (See Datasheet)", 11 VMAX (power) "Maximum Supply Voltage Pin. A special internal PowerPathTM controller monitors the VBATT, VINT, VEXT and USB voltages and passes the highest available supply voltage to the VMAX pin. This pin is used to power some of the (See Datasheet)", 12 USBHP (in) "USB High Power Select Pin. This pin is used to set the USB current limit. Pull high to select 500mA current limit (High Power mode); low to select 100mA current limit (Low Power mode). This pin has a weak pulldown current (See Datasheet)", 13 SW2_BK (power) "Switch Pin for Main Regulator (USB or Wall Powered). Connect the inductor between SW2_BK and the output voltage. Keep these PCB trace lengths as short and wide as possible to reduce EMI.", 14 SW2_BST (power) "Switch Pin for Main Regulator (Battery Powered). Connect the inductor between SW2_BST and VBATT. Keep these PCB trace lengths as short and wide as possible to reduce EMI.", 15 VINT (power) "Internal Supply Voltage Pin. The VINT voltage is regulated to 3.3V. This pin is used to power most of the internal circuitry of the IC. Do not load this output. Connect an output capacitor from this pin to ground.", 16 VMAIN (power) "Main Regulator Output Voltage. An internal 0.4ohm PMOS switch connects this pin to the VINT pin 0.8ms (typ) after the Core voltage comes into regulation. This ensures that VMAIN will always power up after Core output during (See Datasheet)", 17 HSO (out) "Hot Swap Output. An internal 0.8ohm current limited PMOS switch connects this pin to the VINT pin 0.5ms after the core voltage comes into regulation. The nominal voltage at this pin is 3.3V. It is short-circuit protected and (See Datasheet)", 18 SUSPEND (in) "USB Suspend Pin. Pull this pin high to disable all USB functionality. The USB switch connected between USB and VEXT behaves like a back-to-back diode whenever SUSPEND is pulled high. In Suspend mode the device limits the (See Datasheet)", 19 PWRKEY (in) "Power O\N\/OFF Key. Connecting this pin to GND will turn on the IC. This pin is typically used with a momentary-on pushbutton switch to turn on the LTC3456. This pin must be held low until the PWRON pin is pulled high (See Datasheet)", 20 PBSTAT (oc) "Power O\N\/OFF Key Status Pin. This open-drain output pin indicates the state of the PWRKEY pin to the microcontroller. The pin output follows the state of the PWRKEY pin (PBSTAT goes low when PWRKEY is pulled low).", 21 PWRON (in) "Power On Pin. When pulled high this microprocessor controlled pin turns on the IC. This pin has a weak 1uA pull-down current source.", 22 MODE (in) "Burst Mode Select Pin. Tie this pin high to allow automatic Burst Mode operation. Burst Mode operation will provide superior efficiency when any of the outputs are operating with very low output currents. Tie this pin low to (See Datasheet)", 23 ~{RESET} (oc) "Fault Indicator Output Pin. This open-drain output is active both at power-up and power-down. R\E\S\E\T\ is held low at initial power up. When both the Core and Main outputs come into regulation, an internal R\E\S\E\T\ delay (See Datasheet)", 24 FB1 (in) "Feedback Pin for the Core Regulator. The regulator drives the voltage at this pin to 0.8V. Connect the resistor divider tap to this pin. The output voltage of the core regulator can be adjusted from 0.8V to VBATT(MIN).", 25 EP (power) "The Exposed Pad must be soldered to the PCB system ground."